# Altium footprint library TO254P1542X460-3N.PcbLib: 1 footprints
Each footprint in its own frame and in the unit in brackets; x right, y up, seen from the top. Pads: shape width x height; smd on the part's side, far side on the other; paste and mask are expansions set on the pad; w line width, h text height; cw(c..) or ccw(c..) is an arc to the next point about the centre after c.
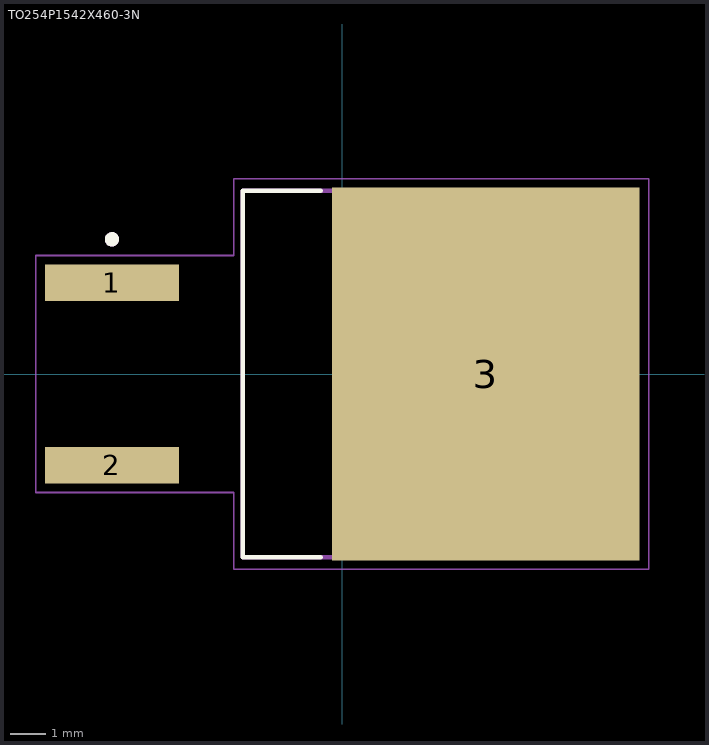
[diagram p0: the footprint, top view; thin cyan lines are the x and y axes]

## TO254P1542X460-3N [mm]
height 4.6
pads (3):
  rect 3.74x1.02 smd: 1(-6.41,2.54) 2(-6.41,-2.54)
  rect 8.56x10.37 smd paste-6: 3(4,0)
Top Overlay:
  circle w0.2: c-6.41,3.75 r0.1
  lines w0.127: -0.593,-5.1 -2.772,-5.1 -2.772,5.1 -0.593,5.1
Top Paste:
  region: 7.85,-0.695 6.57,-0.695 6.57,0.695 7.85,0.695
  region: 7.85,1.385 6.57,1.385 6.57,2.775 7.85,2.775
  region: 7.85,3.465 6.57,3.465 6.57,4.855 7.85,4.855
  region: 7.85,-2.775 6.57,-2.775 6.57,-1.385 7.85,-1.385
  region: 7.85,-4.855 6.57,-4.855 6.57,-3.465 7.85,-3.465
  region: 5.71,-0.695 4.43,-0.695 4.43,0.695 5.71,0.695
  region: 5.71,1.385 4.43,1.385 4.43,2.775 5.71,2.775
  region: 5.71,3.465 4.43,3.465 4.43,4.855 5.71,4.855
  region: 5.71,-2.775 4.43,-2.775 4.43,-1.385 5.71,-1.385
  region: 5.71,-4.855 4.43,-4.855 4.43,-3.465 5.71,-3.465
  region: 3.57,-0.695 2.29,-0.695 2.29,0.695 3.57,0.695
  region: 3.57,1.385 2.29,1.385 2.29,2.775 3.57,2.775
  region: 3.57,3.465 2.29,3.465 2.29,4.855 3.57,4.855
  region: 3.57,-2.775 2.29,-2.775 2.29,-1.385 3.57,-1.385
  region: 3.57,-4.855 2.29,-4.855 2.29,-3.465 3.57,-3.465
  region: 1.43,-0.695 0.15,-0.695 0.15,0.695 1.43,0.695
  region: 1.43,1.385 0.15,1.385 0.15,2.775 1.43,2.775
  region: 1.43,3.465 0.15,3.465 0.15,4.855 1.43,4.855
  region: 1.43,-2.775 0.15,-2.775 0.15,-1.385 1.43,-1.385
  region: 1.43,-4.855 0.15,-4.855 0.15,-3.465 1.43,-3.465
Mechanical 13:
  circle w0.2: c-6.41,3.75 r0.1
  lines w0.127: -2.772,-5.1 6.378,-5.1 6.378,5.1 -2.772,5.1 -2.772,-5.1
Mechanical 15:
  lines w0.05: -8.53,-3.3 -3.023,-3.3 -3.023,-5.435 8.53,-5.435 8.53,5.435 -3.023,5.435 -3.023,3.3 -8.53,3.3 -8.53,-3.3
3D body "step_temp.STEP": height 4.6, standoff -0.23, extent -7.712,-5.1 7.712,5.1